# Altium footprint library PcbLib1.PcbLib: 123 footprints (part 4 of 8)
Each footprint in its own frame and in the unit in brackets; x right, y up, seen from the top. Pads: shape width x height; smd on the part's side, far side on the other; paste and mask are expansions set on the pad; w line width, h text height; cw(c..) or ccw(c..) is an arc to the next point about the centre after c.
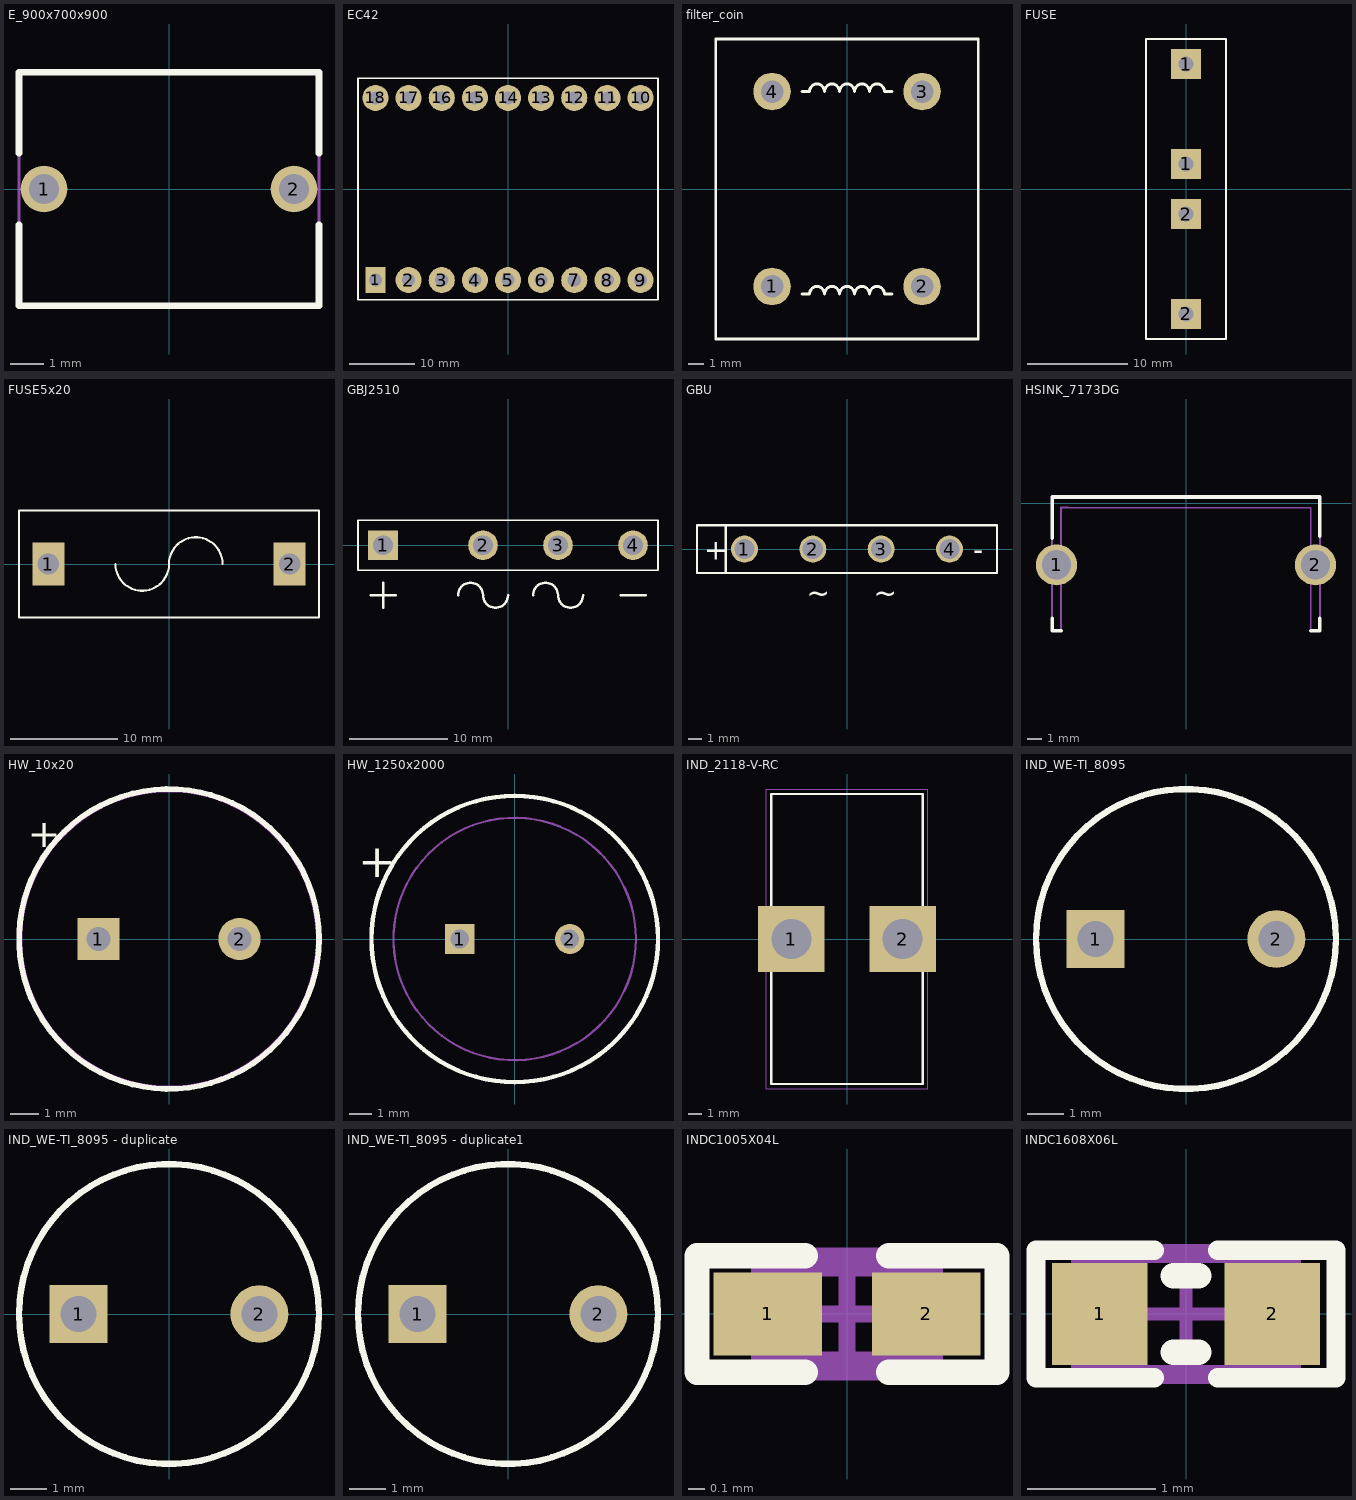
[diagram p3: the footprints below, top view; thin cyan lines are the x and y axes]

## E_900x700x900 [mm] "TH, 2- Leads, Body 9x7mm, Pin Spacing 7.5mm"
height 12
pads (2):
  round 1.4 hole 0.9: 1(-3.75,0) 2(3.75,0)
Top Overlay:
  lines w0.2: -4.5,-1.071 -4.5,-3.5 4.5,-3.5 4.5,-1.071 ; -4.5,1.071 -4.5,3.5 4.5,3.5 4.5,1.071
Mechanical 5:
  lines w0.1: -4.5,-3.5 4.5,-3.5 4.5,3.5 -4.5,3.5 -4.5,-3.5
3D body: height 0.3, standoff -2.5, extent -4.047,-0.299 -3.45,0.3
3D body: height 1.36, standoff -0.16, extent -4.047,-1.732 -3.45,0.3
3D body: height 6.12, standoff 0.81, extent -4.047,-1.732 -1.545,-1.033
3D body: height 6.12, standoff 0.81, extent 1.546,1.033 4.048,1.732
3D body: height 1.36, standoff -0.16, extent 3.45,-0.299 4.048,1.732
3D body: height 0.3, standoff -2.5, extent 3.45,-0.299 4.048,0.299
3D body: height 11.96, standoff 3, extent -4.491,-3.5 4.491,3.5

## EC42 [mm] "ferrit core"
pads (18):
  rect 3x4 hole 2: 1(-20.32,-13.97)
  round 4 hole 2: 2(-15.24,-13.97) 3(-10.16,-13.97) 4(-5.08,-13.97) 5(0,-13.97) 6(5.08,-13.97) 7(10.16,-13.97) 8(15.24,-13.97) 9(20.32,-13.97) 10(20.32,13.97) 11(15.24,13.97) 12(10.16,13.97) 13(5.08,13.97) 14(0,13.97) 15(-5.08,13.97) 16(-10.16,13.97) 17(-15.24,13.97) 18(-20.32,13.97)
Top Overlay:
  lines w0.254: -23,-17 -23,17 23,17 23,-17 -23,-17

## filter_coin [mm] "10MH 18.5x17"
pads (4):
  round 2.5 hole 1.5: 1(-5,-6.5) 2(5,-6.5) 3(5,6.5) 4(-5,6.5)
Top Overlay:
  lines w0.2: -3,-7 -2.5,-7 cw(c-2,-7) -1.5,-7 cw(c-1,-7) -0.5,-7 cw(c0,-7) 0.5,-7 cw(c1,-7) 1.5,-7 cw(c2,-7) 2.5,-7 3,-7 ; -3,6.5 -2.5,6.5 cw(c-2,6.5) -1.5,6.5 cw(c-1,6.5) -0.5,6.5 cw(c0,6.5) 0.5,6.5 cw(c1,6.5) 1.5,6.5 cw(c2,6.5) 2.5,6.5 3,6.5 ; -8.75,-10 8.75,-10 8.75,10 -8.75,10 -8.75,-10

## FUSE [mm]
pads (4):
  rect 3x3 hole 1.5: 1(0,2.5) 1(0,12.5) 2(0,-12.5) 2(0,-2.5)
Top Overlay:
  lines w0.2: -4,-15 4,-15 4,15 -4,15 -4,-15

## FUSE5x20 [mm] "5X20"
pads (2):
  rect 3x4 hole 2: 1(-11.25,0) 2(11.25,0)
Top Overlay:
  lines w0.2: -5,0 ccw(c-2.5,0) 0,0 cw(c2.5,0) 5,0 ; -14,-5 14,-5 14,5 -14,5 -14,-5

## GBJ2510 [mm] "25A GLASS PASSIVATED BRIDGE RECTIFIER"
pads (4):
  rect 3x3 hole 2: 1(-12.7,0)
  round 3 hole 2: 2(-2.54,0) 3(5.08,0) 4(12.7,0)
Top Overlay:
  lines w0.2: -15.24,-2.54 -15.24,2.54 15.24,2.54 15.24,-2.54 -15.24,-2.54
  lines w0.254: -13.97,-5.08 -11.43,-5.08 ; -12.7,-6.35 -12.7,-3.81 ; -5.08,-5.08 cw(c-3.81,-5.08) -2.54,-5.08 ccw(c-1.27,-5.08) 0,-5.08 ; 2.54,-5.08 cw(c3.81,-5.08) 5.08,-5.08 ccw(c6.35,-5.08) 7.62,-5.08 ; 11.43,-5.08 13.97,-5.08

## GBU [mm] "Comchip / Diodes Inc diode bridge"
height 21.55
pads (4):
  round 2 hole 1.5: 1(-7.62,0) 2(-2.54,0) 3(2.54,0) 4(7.62,0)
Top Overlay:
  lines w0.178: -9,-1.78 -9,1.78 ; -11.15,-1.78 -11.15,0 -11.15,1.78 0,1.78 11.15,1.78 11.15,0 11.15,-1.78 0,-1.78 -11.15,-1.78
  text "+" at -10.6,-0.8 h1.52
  text "-" at 9.4,-0.8 h1.52
  text "~" at -3,-4 h1.52
  text "~" at 2,-4 h1.52
Mechanical 5:
  lines w0.127: -9,-1.78 -9,1.78 ; -11.15,-1.78 -11.15,0 -11.15,1.78 0,1.78 11.15,1.78 11.15,0 11.15,-1.78 0,-1.78 -11.15,-1.78
  text "+" at -8.25,-0.75 h1.52
  text "-" at 7.25,-0.75 h1.52
  text "~" at -3,-1.5 h1.52
  text "~" at 2.25,-1.75 h1.52
3D body: height 21.55, standoff -15.25, extent -11.15,-1.76 11.15,1.8

## HSINK_7173DG [mil] "Aavid"
height 900
pads (2):
  round 115 hole 82: 1(-362.5,-173.23) 2(362.5,-173.23)
Top Overlay:
  lines w10: -375,-323.23 -375,-358.23 -350,-358.23 ; -375,-98.23 -375,16.77 375,16.77 375,-93.23 ; 350,-358.23 375,-358.23 375,-323.23
Mechanical 5:
  lines w5: -375,-358.27 -350.39,-358.27 -350.39,-31.5 -350.39,-12.8 -329.72,-12.8 349.41,-13.78 349.41,-82.68 349.41,-358.27 375,-358.27 375,14.27 -375,14.27 -375,-358.27
  text ".Designator" at -27.56,-7.87 h15
3D body: height 900, standoff 150, extent -375.49,-358.23 375.3,12.26
3D body: height 0, standoff -100, extent -375.24,-190.73 -349.59,-153.23
3D body: height 0, standoff -100, extent 349.49,-192.99 375.15,-155.49
3D body: height 150, standoff 0, extent -375,-248.23 -350,-98.23
3D body: height 150, standoff 0, extent 349.81,-247.74 374.81,-97.74

## HW_10x20 [mm] "Nichicon"
height 22
pads (2):
  rect 1.5x1.5 hole 0.85: 1(-2.5,0)
  round 1.5 hole 0.85: 2(2.5,0)
Top Overlay:
  circle w0.2: c0,0 r5.315
  text "+" at -5,3.25 h1.02
Mechanical 5:
  circle w0.1: c0,0 r5.25
  text "+" at -6.4,-0.5 h1.02
3D body: height 22.01, standoff -4, extent -5.209,-5.241 5.24,5.242

## HW_1250x2000 [mm] "TH, 2-Leads, Dia 12.5, Pin Spacing 5mm"
height 22
pads (2):
  rect 1.35x1.35 hole 0.85: 1(-2.5,0)
  round 1.35 hole 0.85: 2(2.5,0)
Top Overlay:
  circle w0.2: c0,0 r6.5
  text "+" at -7.112,2.794 h1.5
Mechanical 5:
  circle w0.1: c0,0 r5.5
  circle w0.1: c0,0 r6.5
  text "+" at -8.1,-0.65 h1.5
3D body: height 21.9, standoff 0.1, extent -6.449,-6.487 6.5,6.487
3D body: height 22, standoff 0, extent -5.456,-5.489 5.5,5.489
3D body: height 0, standoff -2.5, extent -2.797,-0.299 -2.2,0.3
3D body: height 0, standoff -2, extent 2.203,-0.299 2.8,0.3
3D body: height 22, standoff 0, extent 4.807,-2.8 6.507,2.8

## IND_2118-V-RC [mm] "INDUCTOR,2 LEAD,VERTICAL MOUNT,8.382mm PITCH,TH"
height 21.844
pads (2):
  rect 5x5 hole 3: 1(-4.191,0) 2(4.191,0)
Top Overlay:
  lines w0.178: -5.715,-10.922 -5.715,10.922 5.715,10.922 5.715,-10.922 -5.715,-10.922
Mechanical 5:
  lines w0.127: -5.715,-10.922 5.715,-10.922 5.715,10.922 -5.715,10.922 -5.715,-10.922
Mechanical 15:
  lines w0.05: -6.096,-11.303 -6.096,11.303 6.096,11.303 6.096,-11.303 -6.096,-11.303
Mechanical 17:
  text "LEAD LENGTH:12.7MM" at -11.938,5.334 h1.52
3D body: height 21.84, standoff 0, extent -5.715,-10.922 5.715,10.922

## IND_WE-TI_8095 [mm] "Wurth WE-TI 8095"
height 10
pads (2):
  rect 1.6x1.6 hole 1: 1(-2.5,0)
  round 1.6 hole 1: 2(2.5,0)
Top Overlay:
  circle w0.178: c0,0 r4.15
Mechanical 5:
  circle w0.1: c0,0 r4.15
3D body: height 10, standoff -5, extent -4.117,-4.142 4.15,4.142

## IND_WE-TI_8095 - duplicate [mm] "Wurth WE-TI 8095"
height 10
pads (2):
  rect 1.6x1.6 hole 1: 1(-2.5,0)
  round 1.6 hole 1: 2(2.5,0)
Top Overlay:
  circle w0.178: c0,0 r4.15
Mechanical 5:
  circle w0.1: c0,0 r4.15
  text ".Designator" at -1.992,-0.508 h1.02
3D body: height 10, standoff -5, extent -4.117,-4.142 4.15,4.142

## IND_WE-TI_8095 - duplicate1 [mm] "Wurth WE-TI 8095"
height 10
pads (2):
  rect 1.6x1.6 hole 1: 1(-2.5,0)
  round 1.6 hole 1: 2(2.5,0)
Top Overlay:
  circle w0.178: c0,0 r4.15
Mechanical 5:
  circle w0.1: c0,0 r4.15
  text ".Designator" at -1.992,-0.508 h1.02
3D body: height 10, standoff -5, extent -4.117,-4.142 4.15,4.142

## INDC1005X04L [mm] "Chip Inductor, 2-Leads, Body 1.0x0.5mm, IPC High Density"
height 0.4
pads (2):
  rect 0.65x0.5 smd: 1(-0.475,0) 2(0.475,0)
Top Overlay:
  lines w0.152: -0.25,-0.35 -0.9,-0.35 -0.9,0.35 -0.25,0.35 ; 0.25,-0.35 0.9,-0.35 0.9,0.35 0.25,0.35
Mechanical 13:
  lines w0.1: -0.525,-0.275 -0.525,0.275 0.525,0.275 0.525,-0.275 -0.525,-0.275
Mechanical 15:
  lines w0.1: -0.275,0 0.275,0 ; 0,-0.275 0,0.275 ; -0.9,-0.35 -0.9,0.35 0.9,0.35 0.9,-0.35 -0.9,-0.35
3D body: height 0.5, standoff 0, extent -0.5,-0.3 0.5,0.3

## INDC1608X06L [mm] "Chip Inductor, 2-Leads, Body 1.6x0.8mm, IPC High Density"
height 0.55
pads (2):
  rect 0.75x0.8 smd: 1(-0.675,0) 2(0.675,0)
Top Overlay:
  lines w0.152: -0.25,-0.5 -1.175,-0.5 -1.175,0.5 -0.25,0.5 ; 0.25,-0.5 1.175,-0.5 1.175,0.5 0.25,0.5
  lines w0.2: -0.1,-0.3 0.1,-0.3 ; -0.1,0.3 0.1,0.3
Mechanical 13:
  lines w0.1: -0.85,-0.45 -0.85,0.45 0.85,0.45 0.85,-0.45 -0.85,-0.45
Mechanical 15:
  lines w0.1: -0.45,0 0.45,0 ; 0,-0.45 0,0.45 ; -1.175,-0.5 1.175,-0.5 1.175,0.5 -1.175,0.5 -1.175,-0.5
3D body: height 0.8, standoff 0, extent -0.8,-0.475 0.8,0.475